# Altium footprint library Pager.PcbLib: 11 footprints
Each footprint in its own frame and in the unit in brackets; x right, y up, seen from the top. Pads: shape width x height; smd on the part's side, far side on the other; paste and mask are expansions set on the pad; w line width, h text height; cw(c..) or ccw(c..) is an arc to the next point about the centre after c.
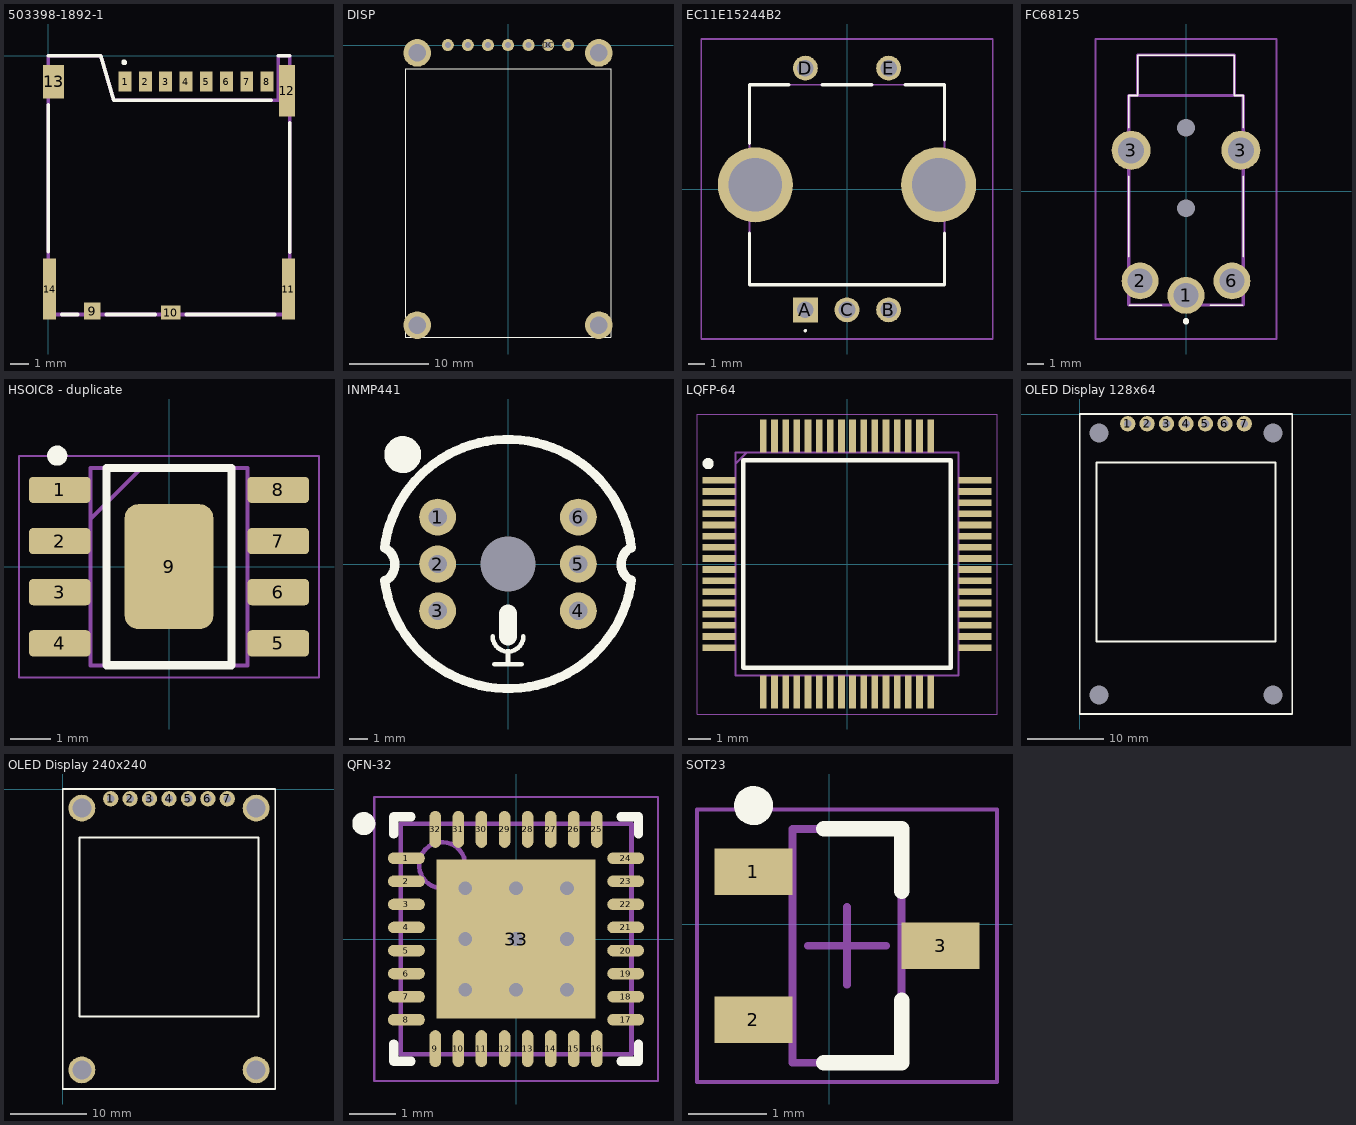
[diagram p0: the footprints below, top view; thin cyan lines are the x and y axes]

## 503398-1892-1 [mm]
pads (14):
  rect 0.7x1.1 smd: 1(4.17,-1.4) 2(5.27,-1.4) 3(6.37,-1.4) 4(7.47,-1.4) 5(8.57,-1.4) 6(9.67,-1.4) 7(10.77,-1.4) 8(11.87,-1.4)
  rect 0.9x0.93 smd: 9(2.38,-13.865)
  rect 1.05x0.78 smd: 10(6.645,-13.94)
  rect 0.7x3.33 smd: 11(13.03,-12.665) 14(0.07,-12.665)
  rect 0.86x2.8 smd: 12(12.95,-1.9)
  rect 1.14x1.83 smd: 13(0.29,-1.415)
Top Overlay:
  circle w0.2: c4.116,-0.356 r0.055
  lines w0.2: 0,-10.648 0,-2.65 ; 0,0 2.849,0 3.554,-2.42 12.109,-2.42 ; 0.74,-14.05 1.6,-14.05 ; 3.15,-14.05 5.8,-14.05 ; 7.5,-14.05 12.3,-14.05 ; 12.474,0 13.1,0 ; 13.1,-10.65 13.1,-3.65
Mechanical 13:
  lines w0.2: 0,-14.05 0,0 2.849,0 3.554,-2.42 12.474,-2.42 12.474,0 13.1,0 13.1,-14.05 0,-14.05
3D body "503398-1892.stp": height 1.28, standoff 0, extent 0,-14.15 13.1,0.02

## DISP [mm]
pads (11):
  round 1.524 hole 0.762: DC(5.08,0) GND(-7.62,0) RES(2.6,0) RLK(7.62,0) SCL(-2.54,0) SDA(0,0) VCC(-5.08,0)
  round 3.5 hole 2.2: ""(-11.5,-35.5) ""(-11.5,-1) ""(11.5,-35.5) ""(11.5,-1)
Top Overlay:
  lines w0.1: -13,-37 13,-37 13,-3 -13,-3 -13,-37
3D body "1.3 TFT IPS - Module.stp": height 7.06, standoff 3, extent -13.97,-37.845 13.97,1.525
3D body "User Library-PLS-7.STEP": height 7, standoff -4.54, extent -8.89,-1.275 8.89,1.265

## EC11E15244B2 [mm]
pads (7):
  rect 1.5x1.5 hole 1: A(-2.5,-7.25)
  round 1.5 hole 1: B(2.5,-7.25) C(0,-7.25) D(-2.5,7.25) E(2.5,7.25)
  round 4.5 hole 3.2: ""(-5.5,0.25) ""(5.5,0.25)
Top Overlay:
  lines w0.1: -2.5,-8.55 cw(c-2.5,-8.5) -2.5,-8.45 cw(c-2.5,-8.5) -2.5,-8.55
  lines w0.2: -5.85,-2.65 -5.85,-5.75 5.85,-5.75 5.85,-2.65 ; -5.85,2.75 -5.85,6.25 -3.5,6.25 ; -1.5,6.25 1.5,6.25 ; 3.5,6.25 5.85,6.25 5.85,2.95
Mechanical 13:
  lines w0.1: -5.85,-5.75 5.85,-5.75 5.85,6.25 -5.85,6.25 -5.85,-5.75
Mechanical 15:
  lines w0.1: -8.75,-9 8.75,-9 8.75,9 -8.75,9 -8.75,-9
3D body "User Library-EC11E-05SW.STEP": height 24.6, standoff -3.55, extent -5.857,-7.475 5.856,7.475

## FC68125 [mm]
pads (7):
  round 2.285 hole 1.523: 1(-0.025,-6.448) 2(-2.875,-5.548) 6(2.825,-5.548)
  round 2.419 hole 1.613: 3(-3.425,2.552) 3(3.375,2.552)
  round 0.55 hole 1.1 unplated: MH1(-0.025,3.952) MH2(-0.025,-1.048)
Top Overlay:
  lines w0.1: -3.575,-4.048 -3.575,0.952 ; -3.575,3.952 -3.575,5.952 -3.025,5.952 -3.025,8.452 2.975,8.452 2.975,5.952 3.525,5.952 3.525,3.952 ; -3.525,-7.048 -1.525,-7.048 ; 1.475,-7.048 3.475,-7.048 ; 3.525,-4.048 3.525,0.952
  lines w0.2: -0.125,-8.048 cw(c-0.025,-8.048) 0.075,-8.048 cw(c-0.025,-8.048) -0.125,-8.048
Mechanical 13:
  lines w0.2: -3.025,5.952 -3.025,8.452 2.975,8.452 2.975,5.952 ; -3.575,-7.048 3.525,-7.048 3.525,5.952 -3.575,5.952 -3.575,-7.048
Mechanical 15:
  lines w0.1: -5.634,-9.148 5.584,-9.148 5.584,9.452 -5.634,9.452 -5.634,-9.148
3D body "FC68125.stp": height 6.13, standoff -2.68, extent -3.761,-6.558 3.711,8.342

## HSOIC8 - duplicate [mm]
pads (9):
  rrect30% 1.525x0.65 smd: 1(-2.712,1.905) 2(-2.712,0.635) 3(-2.712,-0.635) 4(-2.712,-1.905) 5(2.712,-1.905) 6(2.712,-0.635) 7(2.712,0.635) 8(2.712,1.905)
  rrect30% 2.2x3.1 smd: 9(0,0)
Top Overlay:
  circle w0.25: c-2.775,2.755 r0.125
  lines w0.2: -1.55,-2.45 1.55,-2.45 1.55,2.45 -1.55,2.45 -1.55,-2.45
Mechanical 13:
  lines w0.1: -1.95,1.18 -0.68,2.45 ; -1.95,-2.45 -1.95,2.45 1.95,2.45 1.95,-2.45 -1.95,-2.45
Mechanical 15:
  lines w0.05: -3.725,-2.75 -3.725,2.75 3.725,2.75 3.725,-2.75 -3.725,-2.75
3D body "ST1S41PHR.stp": height 1.7, standoff 0, extent -3,-2.45 3,2.45

## INMP441 [mm] "Микрофон"
pads (7):
  round 2 hole 1: 1(-3.81,2.54) 2(-3.81,0) 3(-3.81,-2.54) 4(3.81,-2.54) 5(3.81,0) 6(3.81,2.54)
  round 0 hole 3 unplated: ""(0,0)
Top Overlay:
  circle w1: c-5.7,5.925 r0.5
  lines w0.25: -0.833,-3.913 ccw(c0,-3.913) 0.833,-3.913 ; -0.75,-5.425 0.75,-5.425 ; 0,-5.425 0,-4.813
  lines w0.5: -6.695,0.864 cw(c0,0) 6.692,0.881 ; -6.69,-0.899 ccw(c0,0) 6.692,-0.881 ; -6.541,-0.837 ccw(c-7.125,-0.025) -6.541,0.787 ; 6.537,0.809 ccw(c7.125,0) 6.548,-0.817
  lines w1: 0,-3.913 0,-2.688
3D body "INMP441 I2S.STEP": height 1.71, standoff 0.01, extent -6.883,-7.125 6.883,7.115

## LQFP-64 [mm]
pads (64):
  rect 1.475x0.3 smd: 1(-5.738,3.75) 2(-5.738,3.25) 3(-5.738,2.75) 4(-5.738,2.25) 5(-5.738,1.75) 6(-5.738,1.25) 7(-5.738,0.75) 8(-5.738,0.25) 9(-5.738,-0.25) 10(-5.738,-0.75) 11(-5.738,-1.25) 12(-5.738,-1.75) 13(-5.738,-2.25) 14(-5.738,-2.75) 15(-5.738,-3.25) 16(-5.738,-3.75) 33(5.738,-3.75) 34(5.738,-3.25) 35(5.738,-2.75) 36(5.738,-2.25) 37(5.738,-1.75) 38(5.738,-1.25) 39(5.738,-0.75) 40(5.738,-0.25) 41(5.738,0.25) 42(5.738,0.75) 43(5.738,1.25) 44(5.738,1.75) 45(5.738,2.25) 46(5.738,2.75) 47(5.738,3.25) 48(5.738,3.75)
  rect 0.3x1.475 smd: 17(-3.75,-5.738) 18(-3.25,-5.738) 19(-2.75,-5.738) 20(-2.25,-5.738) 21(-1.75,-5.738) 22(-1.25,-5.738) 23(-0.75,-5.738) 24(-0.25,-5.738) 25(0.25,-5.738) 26(0.75,-5.738) 27(1.25,-5.738) 28(1.75,-5.738) 29(2.25,-5.738) 30(2.75,-5.738) 31(3.25,-5.738) 32(3.75,-5.738) 49(3.75,5.738) 50(3.25,5.738) 51(2.75,5.738) 52(2.25,5.738) 53(1.75,5.738) 54(1.25,5.738) 55(0.75,5.738) 56(0.25,5.738) 57(-0.25,5.738) 58(-0.75,5.738) 59(-1.25,5.738) 60(-1.75,5.738) 61(-2.25,5.738) 62(-2.75,5.738) 63(-3.25,5.738) 64(-3.75,5.738)
Top Overlay:
  circle w0.25: c-6.225,4.5 r0.125
  lines w0.2: -4.65,-4.65 -4.65,4.65 4.65,4.65 4.65,-4.65 -4.65,-4.65
Mechanical 13:
  lines w0.1: -5,4.5 -4.5,5 ; -5,-5 -5,5 5,5 5,-5 -5,-5
Mechanical 15:
  lines w0.05: -6.725,-6.725 -6.725,6.725 6.725,6.725 6.725,-6.725 -6.725,-6.725
3D body "STM32F446RET6.stp": height 1.6, standoff 0, extent -6,-6 6,6

## OLED Display 128x64 [mm]
pads (11):
  round 2 hole 1: 1(6.27,-1.28) 2(8.81,-1.28) 3(11.35,-1.28) 4(13.89,-1.28) 5(16.43,-1.28) 6(18.97,-1.28) 7(21.51,-1.28)
  round 2 hole 2.5: HOLE(2.5,-36.72) HOLE(2.5,-2.5) HOLE(25.28,-36.72) HOLE(25.28,-2.5)
Top Overlay:
  lines w0.254: 0,-39.22 27.78,-39.22 27.78,0 0,0 0,-39.22 ; 2.19,-29.73 25.59,-29.73 25.59,-6.33 2.19,-6.33 2.19,-29.73
3D body "1.3inch TFT ST7789 IC SPI Display LCD.STEP": height 1, standoff -10.5, extent 0,-39.22 27.78,0

## OLED Display 240x240 [mm]
pads (11):
  round 2 hole 1: 1(6.27,-1.28) 2(8.81,-1.28) 3(11.35,-1.28) 4(13.89,-1.28) 5(16.43,-1.28) 6(18.97,-1.28) 7(21.51,-1.28)
  round 3.5 hole 2.5: ""(2.5,-36.72) ""(2.5,-2.5) ""(25.28,-36.72) ""(25.28,-2.5)
Top Overlay:
  lines w0.254: 0,-39.22 27.78,-39.22 27.78,0 0,0 0,-39.22 ; 2.19,-29.73 25.59,-29.73 25.59,-6.33 2.19,-6.33 2.19,-29.73
3D body "1.3 TFT IPS - Module.stp": height 5.56, standoff 1.5, extent -0.071,-39.129 27.869,0.241
3D body "User Library-PLS-7.STEP": height 5.5, standoff -6.04, extent 5.009,-2.559 22.789,-0.019

## QFN-32 [mm] "QFN, 32-Leads, Body 5,00x5,00mm, Pitch 0,50mm, Thermal Pad 3,50x3,50mm, IPC Medium Density"
height 0.85
pads (33):
  oval 0.8x0.25 smd: 1(-2.375,1.75) 2(-2.375,1.25) 3(-2.375,0.75) 4(-2.375,0.25) 5(-2.375,-0.25) 6(-2.375,-0.75) 7(-2.375,-1.25) 8(-2.375,-1.75) 17(2.375,-1.75) 18(2.375,-1.25) 19(2.375,-0.75) 20(2.375,-0.25) 21(2.375,0.25) 22(2.375,0.75) 23(2.375,1.25) 24(2.375,1.75)
  oval 0.25x0.8 smd: 9(-1.75,-2.375) 10(-1.25,-2.375) 11(-0.75,-2.375) 12(-0.25,-2.375) 13(0.25,-2.375) 14(0.75,-2.375) 15(1.25,-2.375) 16(1.75,-2.375) 25(1.75,2.375) 26(1.25,2.375) 27(0.75,2.375) 28(0.25,2.375) 29(-0.25,2.375) 30(-0.75,2.375) 31(-1.25,2.375) 32(-1.75,2.375)
  rect 3.45x3.45 smd: 33(0,0)
via 0,0 diameter 0.5 hole 0.3
via -1.1,1.1 diameter 0.5 hole 0.3
via 0,1.1 diameter 0.5 hole 0.3
via 1.1,1.1 diameter 0.5 hole 0.3
via -1.1,0 diameter 0.5 hole 0.3
via 1.1,0 diameter 0.5 hole 0.3
via -1.1,-1.1 diameter 0.5 hole 0.3
via 0,-1.1 diameter 0.5 hole 0.3
via 1.1,-1.1 diameter 0.5 hole 0.3
Top Overlay:
  circle w0.25: c-3.3,2.5 r0.125
  lines w0.2: -2.65,-2.275 -2.65,-2.65 -2.275,-2.65 ; -2.65,2.275 -2.65,2.65 -2.275,2.65 ; 2.275,-2.65 2.65,-2.65 2.65,-2.275 ; 2.275,2.65 2.65,2.65 2.65,2.275
Mechanical 13:
  circle w0.1: c-1.6,1.6 r0.5
  lines w0.1: -2.5,-2.5 -2.5,2.5 2.5,2.5 2.5,-2.5 -2.5,-2.5
Mechanical 15:
  lines w0.05: -3.075,-3.075 -3.075,3.075 3.075,3.075 3.075,-3.075 -3.075,-3.075
  lines w0.1: -0.5,0 0.5,0 ; 0,-0.5 0,0.5
3D body "QFN50P500X500X85_HS-33N.step": height 0.85, standoff 0, extent -2.55,-2.55 2.55,2.55

## SOT23 [mm]
pads (3):
  rect 1x0.6 smd: 1(-0.975,0.675) 2(-0.975,-1.225) 3(1.425,-0.275)
Top Overlay:
  circle w0.25: c-0.975,1.525 r0.125
  lines w0.2: -0.075,-1.775 0.925,-1.775 0.925,-0.975 ; -0.075,1.225 0.925,1.225 0.925,0.425
Mechanical 13:
  lines w0.1: -0.475,-1.775 0.925,-1.775 0.925,1.225 -0.475,1.225 -0.475,-1.775
Mechanical 15:
  lines w0.05: -1.7,-2.025 2.15,-2.025 2.15,1.475 -1.7,1.475 -1.7,-2.025
  lines w0.1: -0.275,-0.275 0.725,-0.275 ; 0.225,-0.775 0.225,0.225
3D body "CircuitWorks-SOT-23.step": height 1.05, standoff -0.05, extent -0.825,-1.775 1.675,1.225